# EAGLE library part LMDPARTS_STM32F042-LQFP48 (library mini-v1.14-macrofab-rtg)
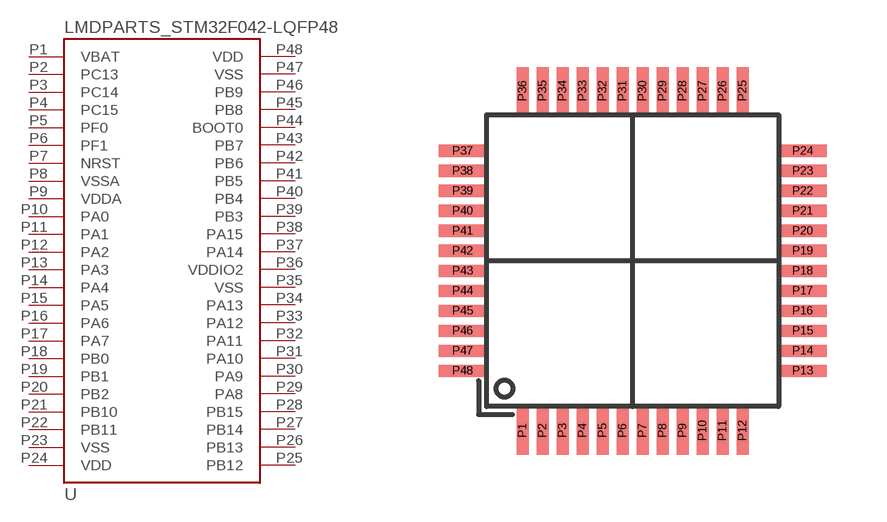
[diagram p3: symbol with the pads of LMDPARTS_LQFP48; footprint LMDPARTS_LQFP48]

Designator prefix -

## LMDPARTS_STM32F042-LQFP48  [LMDPARTS_LQFP48]
P1  VBAT
P2  PC13
P3  PC14
P4  PC15
P5  PF0
P6  PF1
P7  NRST
P8  VSSA
P9  VDDA
P10  PA0
P11  PA1
P12  PA2
P13  PA3
P14  PA4
P15  PA5
P16  PA6
P17  PA7
P18  PB0
P19  PB1
P20  PB2
P21  PB10
P22  PB11
P23  VSS
P24  VDD
P25  PB12
P26  PB13
P27  PB14
P28  PB15
P29  PA8
P30  PA9
P31  PA10
P32  PA11
P33  PA12
P34  PA13
P35  VSS
P36  VDDIO2
P37  PA14
P38  PA15
P39  PB3
P40  PB4
P41  PB5
P42  PB6
P43  PB7
P44  BOOT0
P45  PB8
P46  PB9
P47  VSS
P48  VDD

## Footprint LMDPARTS_LQFP48 (pad centres in mm)
smd 0.3 x 1.2: P1 -2.75,-0.6; P2 -2.25,-0.6; P3 -1.75,-0.6; P4 -1.25,-0.6; P5 -0.75,-0.6; P6 -0.25,-0.6; P7 0.25,-0.6; P8 0.75,-0.6; P9 1.25,-0.6; P10 1.75,-0.6; P11 2.25,-0.6; P12 2.75,-0.6; P25 2.75,7.9; P26 2.25,7.9; P27 1.75,7.9; P28 1.25,7.9; P29 0.75,7.9; P30 0.25,7.9; P31 -0.25,7.9; P32 -0.75,7.9; P33 -1.25,7.9; P34 -1.75,7.9; P35 -2.25,7.9; P36 -2.75,7.9
smd 1.2 x 0.3: P13 4.25,0.9; P14 4.25,1.4; P15 4.25,1.9; P16 4.25,2.4; P17 4.25,2.9; P18 4.25,3.4; P19 4.25,3.9; P20 4.25,4.4; P21 4.25,4.9; P22 4.25,5.4; P23 4.25,5.9; P24 4.25,6.4; P37 -4.25,6.4; P38 -4.25,5.9; P39 -4.25,5.4; P40 -4.25,4.9; P41 -4.25,4.4; P42 -4.25,3.9; P43 -4.25,3.4; P44 -4.25,2.9; P45 -4.25,2.4; P46 -4.25,1.9; P47 -4.25,1.4; P48 -4.25,0.9